# Altium footprint library infineon.PCBLIB: 19 footprints (part 1 of 2)
Each footprint in its own frame and in the unit in brackets; x right, y up, seen from the top. Pads: shape width x height; smd on the part's side, far side on the other; paste and mask are expansions set on the pad; w line width, h text height; cw(c..) or ccw(c..) is an arc to the next point about the centre after c.
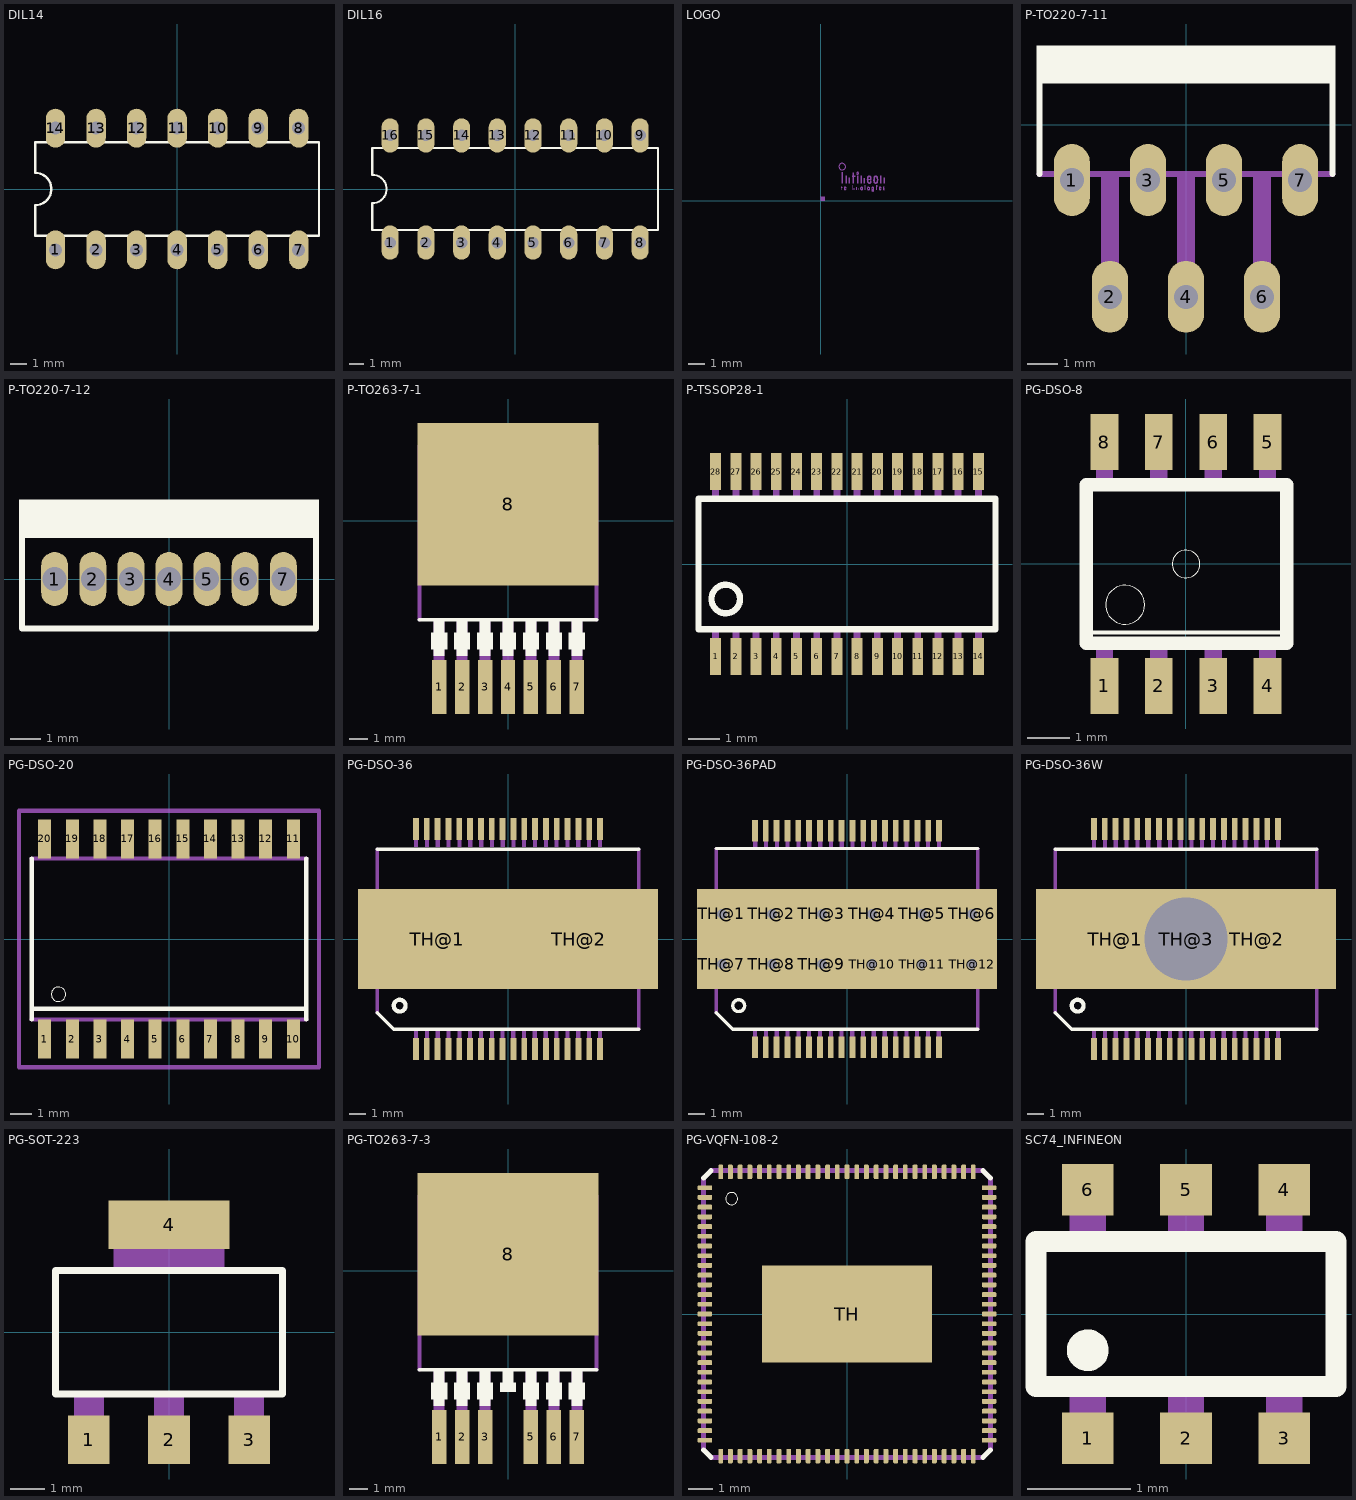
[diagram p0: the footprints below, top view; thin cyan lines are the x and y axes]

## DIL14 [mil]
pads (14):
  oval 48x96 hole 32: 1(-300,-150) 2(-200,-150) 3(-100,-150) 4(0,-150) 5(100,-150) 6(200,-150) 7(300,-150) 8(300,150) 9(200,150) 10(100,150) 11(0,150) 12(-100,150) 13(-200,150) 14(-300,150)
Top Overlay:
  lines w6: -350,-115 350,-115 350,115 -350,115 -350,40 cw(c-350,0) -350,-40 -350,-115

## DIL16 [mil]
pads (16):
  oval 48x96 hole 32: 1(-350,-150) 2(-250,-150) 3(-150,-150) 4(-50,-150) 5(50,-150) 6(150,-150) 7(250,-150) 8(350,-150) 9(350,150) 10(250,150) 11(150,150) 12(50,150) 13(-50,150) 14(-150,150) 15(-250,150) 16(-350,150)
Top Overlay:
  lines w6: -400,-115 400,-115 400,115 -400,115 -400,40 cw(c-400,0) -400,-40 -400,-115

## LOGO [mm]
Mechanical 16:
  circle w0: c1.28,2.034 r0.197
  circle w0: c2.19,1.64 r0.058
  circle w0.012: c2.434,0.736 r0.07
  circle w0.035: c2.839,0.736 r0.07
  circle w0.035: c2.428,0.736 r0.07
  circle w0: c3.32,0.881 r0.026
  rectangle: 1.234,1.02 1.332,1.727
  rectangle: 1.466,1.02 1.559,1.495
  rectangle: 1.657,1.02 1.75,1.379
  rectangle: 1.848,1.42 2.057,1.495
  rectangle: 1.895,1.02 1.987,1.686
  rectangle: 2.144,1.02 2.236,1.501
  rectangle: 2.549,1.02 2.642,1.373
  rectangle: 2.747,1.24 3.03,1.309
  rectangle: 3.529,1.02 3.621,1.495
  rectangle: 3.72,1.02 3.813,1.379
  rectangle: 2.358,1.02 2.451,1.495
  rectangle: 1.228,0.655 1.263,0.881
  rectangle: 1.217,0.788 1.292,0.817
  rectangle: 1.373,0.73 1.524,0.759
  rectangle: 1.86,0.655 1.895,0.944
  rectangle: 1.958,0.655 1.993,0.776
  rectangle: 2.109,0.655 2.144,0.817
  rectangle: 2.208,0.655 2.242,0.776
  rectangle: 2.619,0.655 2.654,0.944
  rectangle: 3.303,0.655 3.337,0.823
  rectangle: 3.453,0.73 3.604,0.759
  region: 0,0 0.254,0 0.254,0.254 0,0.254
  region: 0,0 0.254,0 0.254,0.254 0,0.254
  region: 0,0 0.254,0 0.254,0.254 0,0.254
  region: 0,0 0.254,0 0.254,0.254 0,0.254
  region: 0,0 0.254,0 0.254,0.254 0,0.254
  region: 0,0 0.254,0 0.254,0.254 0,0.254
  region: 0,0 0.254,0 0.254,0.254 0,0.254
  region: 0,0 0.254,0 0.254,0.254 0,0.254
  region: 0,0 0.254,0 0.254,0.254 0,0.254
  lines w0.035: 1.506,0.707 cw(c1.424,0.749) 1.483,0.678 cw(c1.45,0.735) 1.408,0.684 cw(c1.451,0.734) 1.385,0.73 cw(c4.888,0.744) 1.385,0.759 cw(c1.451,0.75) 1.425,0.811 cw(c1.446,0.759) 1.478,0.805 cw(c1.438,0.749) 1.506,0.759 1.506,0.753 ; 3.036,0.645 ccw(c3.101,0.645) 3.042,0.618 ccw(c3.092,0.64) 3.059,0.597 ccw(c3.1,0.649) 3.09,0.583 ccw(c3.099,0.638) 3.129,0.591 ccw(c3.098,0.646) 3.158,0.626 ccw(c3.051,0.662) 3.164,0.66 ccw(c-2.092,0.707) 3.164,0.753 ccw(c3.119,0.753) 3.146,0.788 ccw(c3.043,0.654) 3.129,0.8 ccw(c3.097,0.745) 3.065,0.8 ccw(c3.097,0.744) 3.042,0.776 ccw(c3.107,0.739) 3.042,0.701 ccw(c3.097,0.733) 3.065,0.678 ccw(c3.098,0.733) 3.117,0.672 ccw(c3.099,0.729) 3.152,0.701 ccw(c3.052,0.754) 3.164,0.736 ccw(c0.187,0.779) 3.164,0.823 ; 3.586,0.707 cw(c3.504,0.749) 3.563,0.678 cw(c3.53,0.735) 3.488,0.684 cw(c3.531,0.734) 3.465,0.73 cw(c6.968,0.744) 3.465,0.759 cw(c3.531,0.75) 3.505,0.811 cw(c3.526,0.759) 3.558,0.805 cw(c3.518,0.749) 3.586,0.759 3.586,0.753 ; 3.714,0.69 ccw(c3.788,0.763) 3.737,0.672 ccw(c3.754,0.702) 3.778,0.678 ccw(c3.753,0.702) 3.784,0.719 ccw(c3.733,0.691) 3.76,0.742 cw(c3.923,1.048) 3.731,0.759 cw(c3.746,0.781) 3.72,0.782 cw(c3.752,0.78) 3.731,0.805 cw(c3.749,0.785) 3.755,0.811 cw(c3.744,0.761) 3.778,0.8
  lines w0.093: 2.984,1.194 cw(c2.595,1.185) 2.981,1.138 cw(c2.871,1.147) 2.959,1.081 cw(c2.902,1.13) 2.909,1.055 cw(c2.892,1.135) 2.839,1.072 cw(c2.932,1.17) 2.816,1.101 cw(c2.988,1.203) 2.793,1.159 cw(c3.238,1.261) 2.787,1.332 cw(c3.223,1.263) 2.799,1.385 cw(c3.094,1.301) 2.816,1.431 cw(c2.88,1.401) 2.926,1.454 cw(c2.771,1.278) 2.949,1.431 cw(c2.886,1.377) 2.961,1.414 cw(c2.763,1.315) 2.984,1.315 2.984,1.292 ; 3.175,1.147 ccw(c3.278,1.159) 3.221,1.072 ccw(c3.272,1.149) 3.297,1.06 ccw(c3.273,1.145) 3.355,1.113 ccw(c3.102,1.213) 3.372,1.182 ccw(c2.653,1.263) 3.372,1.344 ccw(c3.186,1.323) 3.343,1.425 ccw(c3.277,1.382) 3.291,1.46 ccw(c3.268,1.334) 3.245,1.46 ccw(c3.258,1.387) 3.187,1.408 ccw(c3.645,1.275) 3.169,1.315 ccw(c3.831,1.257) 3.175,1.153

## P-TO220-7-11 [mil]
pads (7):
  oval 47.24x94.48 hole 31.5: 1(-150,-72.83) 2(-100,-226.38) 3(-50,-72.83) 4(0,-226.38) 5(50,-72.83) 6(100,-226.38) 7(150,-72.83)
Top Overlay:
  rectangle: -196.85,54.13 196.85,104.33
  lines w8: -192.91,-64.96 -192.91,55.12 ; 192.91,-64.96 192.91,55.12
Mechanical 16:
  rectangle: -61.81,-81.69 -38.19,-62.5
  rectangle: -161.81,-81.69 -138.19,-62.5
  rectangle: 38.19,-81.69 61.81,-62.5
  rectangle: -111.81,-235.24 -88.19,-62.5
  rectangle: -11.81,-235.23 11.81,-62.5
  rectangle: 88.19,-235.23 111.81,-62.5
  rectangle: 138.19,-81.69 161.81,-62.5
  lines w8: -192.91,-64.96 192.91,-64.96

## P-TO220-7-12 [mil]
pads (7):
  oval 35.43x70.86 hole 31.5: 1(-150,0) 2(-100,0) 3(-50,0) 4(0,0) 5(50,0) 6(100,0) 7(150,0)
Top Overlay:
  rectangle: -196.85,54.13 196.85,104.33
  lines w8: -192.91,55.12 -192.91,-64.96 192.91,-64.96 192.91,55.12

## P-TO263-7-1 [mil]
pads (8):
  rect 31.5x118.11 smd: 1(-150,-362.5) 2(-100,-362.5) 3(-50,-362.5) 4(0,-362.5) 5(50,-362.5) 6(100,-362.5) 7(150,-362.5)
  rect 393.7x354.33 smd: 8(0,35.24)
Top Overlay:
  rectangle: -17.72,-281.5 17.72,-244
  rectangle: 32.28,-281.49 67.72,-244
  rectangle: 82.28,-281.49 117.72,-244
  rectangle: 132.28,-281.49 167.72,-244
  rectangle: -67.72,-281.49 -32.28,-244
  rectangle: -117.72,-281.49 -82.28,-244
  rectangle: -167.72,-281.49 -132.28,-244
  rectangle: 138.19,-295.28 161.81,-218.5
  rectangle: -161.81,-295.28 -138.19,-218.5
  rectangle: -111.81,-295.28 -88.19,-218.5
  rectangle: -61.81,-295.28 -38.19,-218.5
  rectangle: -11.81,-295.28 11.81,-218.5
  rectangle: 38.19,-295.28 61.81,-218.5
  rectangle: 88.19,-295.28 111.81,-218.5
  lines w8: -192.91,-216.54 192.91,-216.54
Mechanical 16:
  rectangle: -161.81,-408.46 -138.19,-218.5
  rectangle: -111.81,-408.46 -88.19,-218.5
  rectangle: -61.81,-408.46 -38.19,-218.5
  rectangle: -11.81,-408.46 11.81,-218.5
  rectangle: 38.19,-408.46 61.81,-218.5
  rectangle: 88.19,-408.46 111.81,-218.5
  rectangle: 138.19,-408.46 161.81,-218.5
  lines w8: -192.91,-216.54 -192.91,137.8 ; 192.91,-216.54 192.91,137.8 ; -192.91,137.8 -192.91,162.4 -191.93,162.4 -132.87,177.17 132.87,177.17 191.93,162.4 192.91,162.4 192.91,137.8 ; -192.91,137.8 192.91,137.8

## P-TSSOP28-1 [mm]
pads (28):
  rect 0.35x1.2 smd: 1(-4.225,-2.975) 2(-3.575,-2.975) 3(-2.925,-2.975) 4(-2.275,-2.975) 5(-1.625,-2.975) 6(-0.975,-2.975) 7(-0.325,-2.975) 8(0.325,-2.975) 9(0.975,-2.975) 10(1.625,-2.975) 11(2.275,-2.975) 12(2.925,-2.975) 13(3.575,-2.975) 14(4.225,-2.975) 15(4.225,2.975) 16(3.575,2.975) 17(2.925,2.975) 18(2.275,2.975) 19(1.625,2.975) 20(0.975,2.975) 21(0.325,2.975) 22(-0.325,2.975) 23(-0.975,2.975) 24(-1.625,2.975) 25(-2.275,2.975) 26(-2.925,2.975) 27(-3.575,2.975) 28(-4.225,2.975)
Top Overlay:
  circle w0.203: c-3.9,-1.125 r0.459
  lines w0.203: -4.775,-2.1 4.775,-2.1 4.775,2.1 -4.775,2.1 -4.775,-2.1
Mechanical 16:
  rectangle: -4.335,-3.2 -4.115,-2.17
  rectangle: -3.685,-3.2 -3.465,-2.17
  rectangle: -3.035,-3.2 -2.815,-2.17
  rectangle: -2.385,-3.2 -2.165,-2.17
  rectangle: -1.735,-3.2 -1.515,-2.17
  rectangle: -1.085,-3.2 -0.865,-2.17
  rectangle: -0.435,-3.2 -0.215,-2.17
  rectangle: 0.215,-3.2 0.435,-2.17
  rectangle: 0.865,-3.2 1.085,-2.17
  rectangle: 1.515,-3.2 1.735,-2.17
  rectangle: 2.165,-3.2 2.385,-2.17
  rectangle: 2.815,-3.2 3.035,-2.17
  rectangle: 3.465,-3.2 3.685,-2.17
  rectangle: 4.115,-3.2 4.335,-2.17
  rectangle: 4.115,2.17 4.335,3.2
  rectangle: 3.465,2.17 3.685,3.2
  rectangle: 2.815,2.17 3.035,3.2
  rectangle: 2.165,2.17 2.385,3.2
  rectangle: 1.515,2.17 1.735,3.2
  rectangle: 0.865,2.17 1.085,3.2
  rectangle: 0.215,2.17 0.435,3.2
  rectangle: -0.435,2.17 -0.215,3.2
  rectangle: -1.085,2.17 -0.865,3.2
  rectangle: -1.735,2.17 -1.515,3.2
  rectangle: -2.385,2.17 -2.165,3.2
  rectangle: -3.035,2.17 -2.815,3.2
  rectangle: -3.685,2.17 -3.465,3.2
  rectangle: -4.335,2.17 -4.115,3.2

## PG-DSO-8 [mm]
pads (8):
  rect 0.65x1.31 smd: 1(-1.905,-2.845) 2(-0.635,-2.845) 3(0.635,-2.845) 4(1.905,-2.845) 5(1.905,2.845) 6(0.635,2.845) 7(-0.635,2.845) 8(-1.905,2.845)
Top Overlay:
  circle w0: c0,0 r0.322
  circle w0: c-1.42,-0.95 r0.455
  lines w0.1: -2.325,-1.6 2.35,-1.6
  lines w0.32: -2.325,-1.85 2.35,-1.85 2.35,-1.6 2.35,1.85 -2.325,1.85 -2.325,-1.6 -2.325,-1.85
Mechanical 16:
  rectangle: -2.105,-3 -1.705,-1.975
  rectangle: -0.835,-3 -0.435,-1.975
  rectangle: 0.435,-3 0.835,-1.975
  rectangle: 1.705,-3 2.105,-1.975
  region: 2.105,3 1.705,3 1.705,1.975 2.105,1.975
  region: 0.835,3 0.435,3 0.435,1.975 0.835,1.975
  region: -0.435,3 -0.835,3 -0.835,1.975 -0.435,1.975
  region: -1.705,3 -2.105,3 -2.105,1.975 -1.705,1.975
  rectangle: -2.105,-3 -1.705,-1.975
  rectangle: -0.835,-3 -0.435,-1.975
  rectangle: 0.435,-3 0.835,-1.975
  rectangle: 1.705,-3 2.105,-1.975

## PG-DSO-20 [mm]
pads (20):
  rect 0.6x1.8 smd: 1(-5.715,-4.6) 2(-4.445,-4.6) 3(-3.175,-4.6) 4(-1.905,-4.6) 5(-0.635,-4.6) 6(0.635,-4.6) 7(1.905,-4.6) 8(3.175,-4.6) 9(4.445,-4.6) 10(5.715,-4.6) 11(5.715,4.6) 12(4.445,4.6) 13(3.175,4.6) 14(1.905,4.6) 15(0.635,4.6) 16(-0.635,4.6) 17(-1.905,4.6) 18(-3.175,4.6) 19(-4.445,4.6) 20(-5.715,4.6)
Top Overlay:
  circle w0: c-5.08,-2.54 r0.33
  lines w0.203: -6.31,-3.7 -6.31,-3.2 ; -6.31,3.7 -6.31,-3.2 ; 6.31,-3.7 6.31,-3.2 ; 6.31,3.7 6.31,-3.2 ; -6.31,-3.2 6.31,-3.2
Mechanical 16:
  rectangle: -5.96,-5.15 -5.47,-3.8
  rectangle: -4.69,-5.15 -4.2,-3.8
  rectangle: -3.42,-5.15 -2.93,-3.8
  rectangle: -2.15,-5.15 -1.66,-3.8
  rectangle: -0.88,-5.15 -0.39,-3.8
  rectangle: 0.39,-5.15 0.88,-3.8
  rectangle: 1.66,-5.15 2.15,-3.8
  rectangle: 2.93,-5.15 3.42,-3.8
  rectangle: 4.2,-5.15 4.69,-3.8
  rectangle: 5.47,-5.15 5.96,-3.8
  rectangle: 5.47,3.8 5.96,5.15
  rectangle: 4.2,3.8 4.69,5.15
  rectangle: 2.93,3.8 3.42,5.15
  rectangle: 1.66,3.8 2.15,5.15
  rectangle: 0.39,3.8 0.88,5.15
  rectangle: -0.88,3.8 -0.39,5.15
  rectangle: -2.15,3.8 -1.66,5.15
  rectangle: -3.42,3.8 -2.93,5.15
  rectangle: -4.69,3.8 -4.2,5.15
  rectangle: -5.96,3.8 -5.47,5.15
  lines w0.203: -6.31,-3.7 6.31,-3.7 ; -6.31,3.7 6.31,3.7
Mechanical 27:
  lines w0.2: -6.895,-5.9 6.895,-5.9 6.895,5.9 -6.895,5.9 -6.895,-5.9

## PG-DSO-36 [mm]
pads (38):
  rect 0.35x1.3 smd: 1(-5.525,-6.6) 2(-4.875,-6.6) 3(-4.225,-6.6) 4(-3.575,-6.6) 5(-2.925,-6.6) 6(-2.275,-6.6) 7(-1.625,-6.6) 8(-0.975,-6.6) 9(-0.325,-6.6) 10(0.325,-6.6) 11(0.975,-6.6) 12(1.625,-6.6) 13(2.275,-6.6) 14(2.925,-6.6) 15(3.575,-6.6) 16(4.225,-6.6) 17(4.875,-6.6) 18(5.525,-6.6) 19(5.525,6.6) 20(4.875,6.6) 21(4.225,6.6) 22(3.575,6.6) 23(2.925,6.6) 24(2.275,6.6) 25(1.625,6.6) 26(0.975,6.6) 27(0.325,6.6) 28(-0.325,6.6) 29(-0.975,6.6) 30(-1.625,6.6) 31(-2.275,6.6) 32(-2.925,6.6) 33(-3.575,6.6) 34(-4.225,6.6) 35(-4.875,6.6) 36(-5.525,6.6)
  rect 9.5x6 smd: TH@1(-4.25,0) TH@2(4.25,0)
Top Overlay:
  circle w0.25: c-6.5,-4 r0.354
  lines w0.203: -7.85,-4.42 -6.85,-5.42 7.85,-5.42 ; -7.85,5.38 7.85,5.38
Top Paste:
  rectangle: -7.5,1.25 7.5,2.5
  rectangle: -7.5,-2.5 7.5,-1.25
  rectangle: -6.75,-1.5 7,1.5
Top Solder:
  rectangle: -9,1.25 9,3
  rectangle: -9,-3 9,-1.25
  rectangle: -8,-1.25 8,1.25
Mechanical 16:
  rectangle: -0.445,-7.1 -0.195,-5.52
  rectangle: 0.185,-7.1 0.435,-5.52
  region: 0.445,7.1 0.195,7.1 0.195,5.52 0.445,5.52
  region: -0.185,7.1 -0.435,7.1 -0.435,5.52 -0.185,5.52
  rectangle: -1.095,-7.1 -0.845,-5.52
  rectangle: -1.745,-7.1 -1.495,-5.52
  rectangle: -2.395,-7.1 -2.145,-5.52
  rectangle: -3.045,-7.1 -2.795,-5.52
  rectangle: -3.695,-7.1 -3.445,-5.52
  rectangle: -4.345,-7.1 -4.095,-5.52
  rectangle: -4.995,-7.1 -4.745,-5.52
  rectangle: -5.645,-7.1 -5.395,-5.52
  rectangle: 0.835,-7.1 1.085,-5.52
  rectangle: 1.485,-7.1 1.735,-5.52
  rectangle: 2.135,-7.1 2.385,-5.52
  rectangle: 2.785,-7.1 3.035,-5.52
  rectangle: 3.435,-7.1 3.685,-5.52
  rectangle: 4.085,-7.1 4.335,-5.52
  rectangle: 4.735,-7.1 4.985,-5.52
  rectangle: 5.385,-7.1 5.635,-5.52
  region: -0.835,7.1 -1.085,7.1 -1.085,5.52 -0.835,5.52
  region: -1.485,7.1 -1.735,7.1 -1.735,5.52 -1.485,5.52
  region: -2.135,7.1 -2.385,7.1 -2.385,5.52 -2.135,5.52
  region: -2.785,7.1 -3.035,7.1 -3.035,5.52 -2.785,5.52
  region: -3.435,7.1 -3.685,7.1 -3.685,5.52 -3.435,5.52
  region: -4.085,7.1 -4.335,7.1 -4.335,5.52 -4.085,5.52
  region: -4.735,7.1 -4.985,7.1 -4.985,5.52 -4.735,5.52
  region: -5.385,7.1 -5.635,7.1 -5.635,5.52 -5.385,5.52
  region: 1.095,7.1 0.845,7.1 0.845,5.52 1.095,5.52
  region: 1.745,7.1 1.495,7.1 1.495,5.52 1.745,5.52
  region: 2.395,7.1 2.145,7.1 2.145,5.52 2.395,5.52
  region: 3.045,7.1 2.795,7.1 2.795,5.52 3.045,5.52
  region: 3.695,7.1 3.445,7.1 3.445,5.52 3.695,5.52
  region: 4.345,7.1 4.095,7.1 4.095,5.52 4.345,5.52
  region: 4.995,7.1 4.745,7.1 4.745,5.52 4.995,5.52
  region: 5.645,7.1 5.395,7.1 5.395,5.52 5.645,5.52
  lines w0.203: -7.85,-4.42 -7.85,-1.5 -6.75,-1.5 -6.75,1.5 -7.85,1.5 -7.85,5.38 ; 7.85,-5.42 7.85,-1.5 6.75,-1.5 6.75,1.5 7.85,1.5 7.85,5.38

## PG-DSO-36PAD [mm]
pads (48):
  rect 0.35x1.3 smd: 1(-5.525,-6.5) 2(-4.875,-6.5) 3(-4.225,-6.5) 4(-3.575,-6.5) 5(-2.925,-6.5) 6(-2.275,-6.5) 7(-1.625,-6.5) 8(-0.975,-6.5) 9(-0.325,-6.5) 10(0.325,-6.5) 11(0.975,-6.5) 12(1.625,-6.5) 13(2.275,-6.5) 14(2.925,-6.5) 15(3.575,-6.5) 16(4.225,-6.5) 17(4.875,-6.5) 18(5.525,-6.5) 19(5.525,6.5) 20(4.875,6.5) 21(4.225,6.5) 22(3.575,6.5) 23(2.925,6.5) 24(2.275,6.5) 25(1.625,6.5) 26(0.975,6.5) 27(0.325,6.5) 28(-0.325,6.5) 29(-0.975,6.5) 30(-1.625,6.5) 31(-2.275,6.5) 32(-2.925,6.5) 33(-3.575,6.5) 34(-4.225,6.5) 35(-4.875,6.5) 36(-5.525,6.5)
  rect 3x3 hole 0.6: TH@1(-7.5,1.5) TH@2(-4.5,1.5) TH@3(-1.5,1.5) TH@4(1.5,1.5) TH@5(4.5,1.5) TH@6(7.5,1.5) TH@7(-7.5,-1.5) TH@8(-4.5,-1.5) TH@9(-1.5,-1.5) TH@10(1.5,-1.5) TH@11(4.5,-1.5) TH@12(7.5,-1.5)
Top Overlay:
  circle w0.203: c-6.5,-4 r0.354
  lines w0.203: -7.85,-4.42 -6.85,-5.42 7.85,-5.42 ; -7.85,5.43 7.85,5.43
Top Paste:
  rectangle: -7.5,1.25 7.5,2.5
  rectangle: -7.5,-2.5 7.5,-1.25
  rectangle: -6.75,-1.5 7,1.5
Top Solder:
  rectangle: -9,1.25 9,3
  rectangle: -9,-3 9,-1.25
  rectangle: -8,-1.25 8,1.25
Mechanical 16:
  rectangle: -0.445,-7.1 -0.195,-5.52
  rectangle: 0.185,-7.1 0.435,-5.52
  rectangle: -1.095,-7.1 -0.845,-5.52
  rectangle: -1.745,-7.1 -1.495,-5.52
  rectangle: -2.395,-7.1 -2.145,-5.52
  rectangle: -3.045,-7.1 -2.795,-5.52
  rectangle: -3.695,-7.1 -3.445,-5.52
  rectangle: -4.345,-7.1 -4.095,-5.52
  rectangle: -4.995,-7.1 -4.745,-5.52
  rectangle: -5.645,-7.1 -5.395,-5.52
  rectangle: 0.835,-7.1 1.085,-5.52
  rectangle: 1.485,-7.1 1.735,-5.52
  rectangle: 2.135,-7.1 2.385,-5.52
  rectangle: 2.785,-7.1 3.035,-5.52
  rectangle: 3.435,-7.1 3.685,-5.52
  rectangle: 4.085,-7.1 4.335,-5.52
  rectangle: 4.735,-7.1 4.985,-5.52
  rectangle: 5.385,-7.1 5.635,-5.52
  region: 0.445,7.1 0.195,7.1 0.195,5.52 0.445,5.52
  region: -0.185,7.1 -0.435,7.1 -0.435,5.52 -0.185,5.52
  region: 1.095,7.1 0.845,7.1 0.845,5.52 1.095,5.52
  region: 1.745,7.1 1.495,7.1 1.495,5.52 1.745,5.52
  region: 2.395,7.1 2.145,7.1 2.145,5.52 2.395,5.52
  region: 3.045,7.1 2.795,7.1 2.795,5.52 3.045,5.52
  region: 3.695,7.1 3.445,7.1 3.445,5.52 3.695,5.52
  region: 4.345,7.1 4.095,7.1 4.095,5.52 4.345,5.52
  region: 4.995,7.1 4.745,7.1 4.745,5.52 4.995,5.52
  region: 5.645,7.1 5.395,7.1 5.395,5.52 5.645,5.52
  region: -0.835,7.1 -1.085,7.1 -1.085,5.52 -0.835,5.52
  region: -1.485,7.1 -1.735,7.1 -1.735,5.52 -1.485,5.52
  region: -2.135,7.1 -2.385,7.1 -2.385,5.52 -2.135,5.52
  region: -2.785,7.1 -3.035,7.1 -3.035,5.52 -2.785,5.52
  region: -3.435,7.1 -3.685,7.1 -3.685,5.52 -3.435,5.52
  region: -4.085,7.1 -4.335,7.1 -4.335,5.52 -4.085,5.52
  region: -4.735,7.1 -4.985,7.1 -4.985,5.52 -4.735,5.52
  region: -5.385,7.1 -5.635,7.1 -5.635,5.52 -5.385,5.52
  lines w0.203: -7.85,-4.42 -7.85,-1.5 -6.75,-1.5 -6.75,1.5 -7.85,1.5 -7.85,5.43 ; 7.85,-5.42 7.85,-1.5 6.75,-1.5 6.75,1.5 7.85,1.5 7.85,5.43

## PG-DSO-36W [mm]
pads (39):
  rect 0.35x1.3 smd: 1(-5.525,-6.6) 2(-4.875,-6.6) 3(-4.225,-6.6) 4(-3.575,-6.6) 5(-2.925,-6.6) 6(-2.275,-6.6) 7(-1.625,-6.6) 8(-0.975,-6.6) 9(-0.325,-6.6) 10(0.325,-6.6) 11(0.975,-6.6) 12(1.625,-6.6) 13(2.275,-6.6) 14(2.925,-6.6) 15(3.575,-6.6) 16(4.225,-6.6) 17(4.875,-6.6) 18(5.525,-6.6) 19(5.525,6.6) 20(4.875,6.6) 21(4.225,6.6) 22(3.575,6.6) 23(2.925,6.6) 24(2.275,6.6) 25(1.625,6.6) 26(0.975,6.6) 27(0.325,6.6) 28(-0.325,6.6) 29(-0.975,6.6) 30(-1.625,6.6) 31(-2.275,6.6) 32(-2.925,6.6) 33(-3.575,6.6) 34(-4.225,6.6) 35(-4.875,6.6) 36(-5.525,6.6)
  rect 9.5x6 smd: TH@1(-4.25,0) TH@2(4.25,0)
  round 5.1 hole 5: TH@3(0,0)
Top Overlay:
  circle w0.25: c-6.5,-4 r0.354
  lines w0.203: -7.85,-4.42 -6.85,-5.42 7.85,-5.42 ; -7.85,5.38 7.85,5.38
Top Paste:
  rectangle: -7.5,1.25 7.5,2.5
  rectangle: -7.5,-2.5 7.5,-1.25
  rectangle: -6.75,-1.5 7,1.5
Top Solder:
  rectangle: -9,1.25 9,3
  rectangle: -9,-3 9,-1.25
  rectangle: -8,-1.25 8,1.25
Mechanical 16:
  rectangle: -0.445,-7.1 -0.195,-5.52
  rectangle: 0.185,-7.1 0.435,-5.52
  region: 0.445,7.05 0.195,7.05 0.195,5.47 0.445,5.47
  region: -0.185,7.05 -0.435,7.05 -0.435,5.47 -0.185,5.47
  rectangle: -1.095,-7.1 -0.845,-5.52
  rectangle: -1.745,-7.1 -1.495,-5.52
  rectangle: -2.395,-7.1 -2.145,-5.52
  rectangle: -3.045,-7.1 -2.795,-5.52
  rectangle: -3.695,-7.1 -3.445,-5.52
  rectangle: -4.345,-7.1 -4.095,-5.52
  rectangle: -4.995,-7.1 -4.745,-5.52
  rectangle: -5.645,-7.1 -5.395,-5.52
  rectangle: 0.835,-7.1 1.085,-5.52
  rectangle: 1.485,-7.1 1.735,-5.52
  rectangle: 2.135,-7.1 2.385,-5.52
  rectangle: 2.785,-7.1 3.035,-5.52
  rectangle: 3.435,-7.1 3.685,-5.52
  rectangle: 4.085,-7.1 4.335,-5.52
  rectangle: 4.735,-7.1 4.985,-5.52
  rectangle: 5.385,-7.1 5.635,-5.52
  region: -0.835,7.05 -1.085,7.05 -1.085,5.47 -0.835,5.47
  region: -1.485,7.05 -1.735,7.05 -1.735,5.47 -1.485,5.47
  region: -2.135,7.05 -2.385,7.05 -2.385,5.47 -2.135,5.47
  region: -2.785,7.05 -3.035,7.05 -3.035,5.47 -2.785,5.47
  region: -3.435,7.05 -3.685,7.05 -3.685,5.47 -3.435,5.47
  region: -4.085,7.05 -4.335,7.05 -4.335,5.47 -4.085,5.47
  region: -4.735,7.05 -4.985,7.05 -4.985,5.47 -4.735,5.47
  region: -5.385,7.05 -5.635,7.05 -5.635,5.47 -5.385,5.47
  region: 1.095,7.05 0.845,7.05 0.845,5.47 1.095,5.47
  region: 1.745,7.05 1.495,7.05 1.495,5.47 1.745,5.47
  region: 2.395,7.05 2.145,7.05 2.145,5.47 2.395,5.47
  region: 3.045,7.05 2.795,7.05 2.795,5.47 3.045,5.47
  region: 3.695,7.05 3.445,7.05 3.445,5.47 3.695,5.47
  region: 4.345,7.05 4.095,7.05 4.095,5.47 4.345,5.47
  region: 4.995,7.05 4.745,7.05 4.745,5.47 4.995,5.47
  region: 5.645,7.05 5.395,7.05 5.395,5.47 5.645,5.47
  lines w0.203: -7.85,-4.42 -7.85,-1.5 -6.75,-1.5 -6.75,1.5 -7.85,1.5 -7.85,5.38 ; 7.85,-5.42 7.85,-1.5 6.75,-1.5 6.75,1.5 7.85,1.5 7.85,5.38

## PG-SOT-223 [mm]
pads (4):
  rect 1.2x1.4 smd: 1(-2.311,-3.099) 2(0,-3.099) 3(2.311,-3.099)
  rect 3.5x1.4 smd: 4(0,3.099)
Top Overlay:
  lines w0.203: -3.277,-1.778 3.277,-1.778 3.277,1.778 -3.277,1.778 -3.277,-1.778
Mechanical 16:
  rectangle: -1.6,1.803 1.6,3.658
  rectangle: -0.432,-3.658 0.432,-1.803
  rectangle: -2.743,-3.658 -1.88,-1.803
  rectangle: 1.88,-3.658 2.743,-1.803
  rectangle: -1.6,1.803 1.6,3.658
  rectangle: -0.432,-3.658 0.432,-1.803
  rectangle: -2.743,-3.658 -1.88,-1.803
  rectangle: 1.88,-3.658 2.743,-1.803

## PG-TO263-7-3 [mil]
pads (7):
  rect 31.5x118.11 smd: 1(-150,-362.5) 2(-100,-362.5) 3(-50,-362.5) 5(50,-362.5) 6(100,-362.5) 7(150,-362.5)
  rect 393.7x354.33 smd: 8(0,35.24)
Top Overlay:
  rectangle: -17.72,-265 17.72,-244
  rectangle: 32.28,-281.49 67.72,-244
  rectangle: 82.28,-281.49 117.72,-244
  rectangle: 132.28,-281.49 167.72,-244
  rectangle: -67.72,-281.49 -32.28,-244
  rectangle: -117.72,-281.49 -82.28,-244
  rectangle: -167.72,-281.49 -132.28,-244
  rectangle: 138.19,-295.28 161.81,-218.5
  rectangle: -161.81,-295.28 -138.19,-218.5
  rectangle: -111.81,-295.28 -88.19,-218.5
  rectangle: -61.81,-295.28 -38.19,-218.5
  rectangle: -11.81,-260 11.81,-218.5
  rectangle: 38.19,-295.28 61.81,-218.5
  rectangle: 88.19,-295.28 111.81,-218.5
  lines w8: -192.91,-216.54 192.91,-216.54
Mechanical 16:
  rectangle: -161.81,-408.46 -138.19,-218.5
  rectangle: -111.81,-408.46 -88.19,-218.5
  rectangle: -61.81,-408.46 -38.19,-218.5
  rectangle: 38.19,-408.46 61.81,-218.5
  rectangle: 88.19,-408.46 111.81,-218.5
  rectangle: 138.19,-408.46 161.81,-218.5
  lines w8: -192.91,-216.54 -192.91,137.8 ; 192.91,-216.54 192.91,137.8 ; -192.91,137.8 -192.91,162.4 -191.93,162.4 -132.87,177.17 132.87,177.17 191.93,162.4 192.91,162.4 192.91,137.8 ; -192.91,137.8 192.91,137.8

## PG-VQFN-108-2 [mm]
pads (109):
  rrect50% 0.6x0.2 smd: 1(-5.85,5.2) 2(-5.85,4.8) 3(-5.85,4.4) 4(-5.85,4) 5(-5.85,3.6) 6(-5.85,3.2) 7(-5.85,2.8) 8(-5.85,2.4) 9(-5.85,2) 10(-5.85,1.6) 11(-5.85,1.2) 12(-5.85,0.8) 13(-5.85,0.4) 14(-5.85,0) 15(-5.85,-0.4) 16(-5.85,-0.8) 17(-5.85,-1.2) 18(-5.85,-1.6) 19(-5.85,-2) 20(-5.85,-2.4) 21(-5.85,-2.8) 22(-5.85,-3.2) 23(-5.85,-3.6) 24(-5.85,-4) 25(-5.85,-4.4) 26(-5.85,-4.8) 27(-5.85,-5.2) 55(5.85,-5.2) 56(5.85,-4.8) 57(5.85,-4.4) 58(5.85,-4) 59(5.85,-3.6) 60(5.85,-3.2) 61(5.85,-2.8) 62(5.85,-2.4) 63(5.85,-2) 64(5.85,-1.6) 65(5.85,-1.2) 66(5.85,-0.8) 67(5.85,-0.4) 68(5.85,0) 69(5.85,0.4) 70(5.85,0.8) 71(5.85,1.2) 72(5.85,1.6) 73(5.85,2) 74(5.85,2.4) 75(5.85,2.8) 76(5.85,3.2) 77(5.85,3.6) 78(5.85,4) 79(5.85,4.4) 80(5.85,4.8) 81(5.85,5.2)
  rrect50% 0.2x0.6 smd: 28(-5.2,-5.85) 29(-4.8,-5.85) 30(-4.4,-5.85) 31(-4,-5.85) 32(-3.6,-5.85) 33(-3.2,-5.85) 34(-2.8,-5.85) 35(-2.4,-5.85) 36(-2,-5.85) 37(-1.6,-5.85) 38(-1.2,-5.85) 39(-0.8,-5.85) 40(-0.4,-5.85) 41(0,-5.85) 42(0.4,-5.85) 43(0.8,-5.85) 44(1.2,-5.85) 45(1.6,-5.85) 46(2,-5.85) 47(2.4,-5.85) 48(2.8,-5.85) 49(3.2,-5.85) 50(3.6,-5.85) 51(4,-5.85) 52(4.4,-5.85) 53(4.8,-5.85) 54(5.2,-5.85) 82(5.2,5.85) 83(4.8,5.85) 84(4.4,5.85) 85(4,5.85) 86(3.6,5.85) 87(3.2,5.85) 88(2.8,5.85) 89(2.4,5.85) 90(2,5.85) 91(1.6,5.85) 92(1.2,5.85) 93(0.8,5.85) 94(0.4,5.85) 95(0,5.85) 96(-0.4,5.85) 97(-0.8,5.85) 98(-1.2,5.85) 99(-1.6,5.85) 100(-2,5.85) 101(-2.4,5.85) 102(-2.8,5.85) 103(-3.2,5.85) 104(-3.6,5.85) 105(-4,5.85) 106(-4.4,5.85) 107(-4.8,5.85) 108(-5.2,5.85)
  rect 7x4 smd: TH(0,0)
Top Overlay:
  circle w0: c-4.75,4.75 r0.25
  lines w0.203: -5.9,-5.6 -5.6,-5.9 ; -5.9,5.6 -5.6,5.9 ; 5.6,-5.9 5.9,-5.6 ; 5.6,5.9 5.9,5.6
Top Paste:
  rectangle: -6.125,5.125 -5.575,5.275
  rectangle: -6.125,4.725 -5.575,4.875
  rectangle: -6.125,4.325 -5.575,4.475
  rectangle: -6.125,3.925 -5.575,4.075
  rectangle: -6.125,3.525 -5.575,3.675
  rectangle: -6.125,3.125 -5.575,3.275
  rectangle: -6.125,2.725 -5.575,2.875
  rectangle: -6.125,2.325 -5.575,2.475
  rectangle: -6.125,1.925 -5.575,2.075
  rectangle: -6.125,1.525 -5.575,1.675
  rectangle: -6.125,1.125 -5.575,1.275
  rectangle: -6.125,0.725 -5.575,0.875
  rectangle: -6.125,0.325 -5.575,0.475
  rectangle: -6.125,-0.075 -5.575,0.075
  rectangle: -6.125,-0.475 -5.575,-0.325
  rectangle: -6.125,-0.875 -5.575,-0.725
  rectangle: -6.125,-1.275 -5.575,-1.125
  rectangle: -6.125,-1.675 -5.575,-1.525
  rectangle: -6.125,-2.075 -5.575,-1.925
  rectangle: -6.125,-2.475 -5.575,-2.325
  rectangle: -6.125,-2.875 -5.575,-2.725
  rectangle: -6.125,-3.275 -5.575,-3.125
  rectangle: -6.125,-3.675 -5.575,-3.525
  rectangle: -6.125,-4.075 -5.575,-3.925
  rectangle: -6.125,-4.475 -5.575,-4.325
  rectangle: -6.125,-4.875 -5.575,-4.725
  rectangle: -6.125,-5.275 -5.575,-5.125
  region: -5.125,-6.125 -5.125,-5.575 -5.275,-5.575 -5.275,-6.125
  region: -4.725,-6.125 -4.725,-5.575 -4.875,-5.575 -4.875,-6.125
  region: -4.325,-6.125 -4.325,-5.575 -4.475,-5.575 -4.475,-6.125
  region: -3.925,-6.125 -3.925,-5.575 -4.075,-5.575 -4.075,-6.125
  region: -3.525,-6.125 -3.525,-5.575 -3.675,-5.575 -3.675,-6.125
  region: -3.125,-6.125 -3.125,-5.575 -3.275,-5.575 -3.275,-6.125
  region: -2.725,-6.125 -2.725,-5.575 -2.875,-5.575 -2.875,-6.125
  region: -2.325,-6.125 -2.325,-5.575 -2.475,-5.575 -2.475,-6.125
  region: -1.925,-6.125 -1.925,-5.575 -2.075,-5.575 -2.075,-6.125
  region: -1.525,-6.125 -1.525,-5.575 -1.675,-5.575 -1.675,-6.125
  region: -1.125,-6.125 -1.125,-5.575 -1.275,-5.575 -1.275,-6.125
  region: -0.725,-6.125 -0.725,-5.575 -0.875,-5.575 -0.875,-6.125
  region: -0.325,-6.125 -0.325,-5.575 -0.475,-5.575 -0.475,-6.125
  region: 0.075,-6.125 0.075,-5.575 -0.075,-5.575 -0.075,-6.125
  region: 0.475,-6.125 0.475,-5.575 0.325,-5.575 0.325,-6.125
  region: 0.875,-6.125 0.875,-5.575 0.725,-5.575 0.725,-6.125
  region: 1.275,-6.125 1.275,-5.575 1.125,-5.575 1.125,-6.125
  region: 1.675,-6.125 1.675,-5.575 1.525,-5.575 1.525,-6.125
  region: 2.075,-6.125 2.075,-5.575 1.925,-5.575 1.925,-6.125
  region: 2.475,-6.125 2.475,-5.575 2.325,-5.575 2.325,-6.125
  region: 2.875,-6.125 2.875,-5.575 2.725,-5.575 2.725,-6.125
  region: 3.275,-6.125 3.275,-5.575 3.125,-5.575 3.125,-6.125
  region: 3.675,-6.125 3.675,-5.575 3.525,-5.575 3.525,-6.125
  region: 4.075,-6.125 4.075,-5.575 3.925,-5.575 3.925,-6.125
  region: 4.475,-6.125 4.475,-5.575 4.325,-5.575 4.325,-6.125
  region: 4.875,-6.125 4.875,-5.575 4.725,-5.575 4.725,-6.125
  region: 5.275,-6.125 5.275,-5.575 5.125,-5.575 5.125,-6.125
  region: 6.125,-5.125 5.575,-5.125 5.575,-5.275 6.125,-5.275
  region: 6.125,-4.725 5.575,-4.725 5.575,-4.875 6.125,-4.875
  region: 6.125,-4.325 5.575,-4.325 5.575,-4.475 6.125,-4.475
  region: 6.125,-3.925 5.575,-3.925 5.575,-4.075 6.125,-4.075
  region: 6.125,-3.525 5.575,-3.525 5.575,-3.675 6.125,-3.675
  region: 6.125,-3.125 5.575,-3.125 5.575,-3.275 6.125,-3.275
  region: 6.125,-2.725 5.575,-2.725 5.575,-2.875 6.125,-2.875
  region: 6.125,-2.325 5.575,-2.325 5.575,-2.475 6.125,-2.475
  region: 6.125,-1.925 5.575,-1.925 5.575,-2.075 6.125,-2.075
  region: 6.125,-1.525 5.575,-1.525 5.575,-1.675 6.125,-1.675
  region: 6.125,-1.125 5.575,-1.125 5.575,-1.275 6.125,-1.275
  region: 6.125,-0.725 5.575,-0.725 5.575,-0.875 6.125,-0.875
  region: 6.125,-0.325 5.575,-0.325 5.575,-0.475 6.125,-0.475
  region: 6.125,0.075 5.575,0.075 5.575,-0.075 6.125,-0.075
  region: 6.125,0.475 5.575,0.475 5.575,0.325 6.125,0.325
  region: 6.125,0.875 5.575,0.875 5.575,0.725 6.125,0.725
  region: 6.125,1.275 5.575,1.275 5.575,1.125 6.125,1.125
  region: 6.125,1.675 5.575,1.675 5.575,1.525 6.125,1.525
  region: 6.125,2.075 5.575,2.075 5.575,1.925 6.125,1.925
  region: 6.125,2.475 5.575,2.475 5.575,2.325 6.125,2.325
  region: 6.125,2.875 5.575,2.875 5.575,2.725 6.125,2.725
  region: 6.125,3.275 5.575,3.275 5.575,3.125 6.125,3.125
  region: 6.125,3.675 5.575,3.675 5.575,3.525 6.125,3.525
  region: 6.125,4.075 5.575,4.075 5.575,3.925 6.125,3.925
  region: 6.125,4.475 5.575,4.475 5.575,4.325 6.125,4.325
  region: 6.125,4.875 5.575,4.875 5.575,4.725 6.125,4.725
  region: 6.125,5.275 5.575,5.275 5.575,5.125 6.125,5.125
  region: 5.125,6.125 5.125,5.575 5.275,5.575 5.275,6.125
  region: 4.725,6.125 4.725,5.575 4.875,5.575 4.875,6.125
  region: 4.325,6.125 4.325,5.575 4.475,5.575 4.475,6.125
  region: 3.925,6.125 3.925,5.575 4.075,5.575 4.075,6.125
  region: 3.525,6.125 3.525,5.575 3.675,5.575 3.675,6.125
  region: 3.125,6.125 3.125,5.575 3.275,5.575 3.275,6.125
  region: 2.725,6.125 2.725,5.575 2.875,5.575 2.875,6.125
  region: 2.325,6.125 2.325,5.575 2.475,5.575 2.475,6.125
  region: 1.925,6.125 1.925,5.575 2.075,5.575 2.075,6.125
  region: 1.525,6.125 1.525,5.575 1.675,5.575 1.675,6.125
  region: 1.125,6.125 1.125,5.575 1.275,5.575 1.275,6.125
  region: 0.725,6.125 0.725,5.575 0.875,5.575 0.875,6.125
  region: 0.325,6.125 0.325,5.575 0.475,5.575 0.475,6.125
  region: -0.075,6.125 -0.075,5.575 0.075,5.575 0.075,6.125
  region: -0.475,6.125 -0.475,5.575 -0.325,5.575 -0.325,6.125
  region: -0.875,6.125 -0.875,5.575 -0.725,5.575 -0.725,6.125
  region: -1.275,6.125 -1.275,5.575 -1.125,5.575 -1.125,6.125
  region: -1.675,6.125 -1.675,5.575 -1.525,5.575 -1.525,6.125
  region: -2.075,6.125 -2.075,5.575 -1.925,5.575 -1.925,6.125
  region: -2.475,6.125 -2.475,5.575 -2.325,5.575 -2.325,6.125
  region: -2.875,6.125 -2.875,5.575 -2.725,5.575 -2.725,6.125
  region: -3.275,6.125 -3.275,5.575 -3.125,5.575 -3.125,6.125
  region: -3.675,6.125 -3.675,5.575 -3.525,5.575 -3.525,6.125
  region: -4.075,6.125 -4.075,5.575 -3.925,5.575 -3.925,6.125
  region: -4.475,6.125 -4.475,5.575 -4.325,5.575 -4.325,6.125
  region: -4.875,6.125 -4.875,5.575 -4.725,5.575 -4.725,6.125
  region: -5.275,6.125 -5.275,5.575 -5.125,5.575 -5.125,6.125
  rectangle: -3.2,-1.6 3.2,1.6
Top Solder:
  rectangle: -6.175,5.075 -5.525,5.325
  rectangle: -6.175,4.675 -5.525,4.925
  rectangle: -6.175,4.275 -5.525,4.525
  rectangle: -6.175,3.875 -5.525,4.125
  rectangle: -6.175,3.475 -5.525,3.725
  rectangle: -6.175,3.075 -5.525,3.325
  rectangle: -6.175,2.675 -5.525,2.925
  rectangle: -6.175,2.275 -5.525,2.525
  rectangle: -6.175,1.875 -5.525,2.125
  rectangle: -6.175,1.475 -5.525,1.725
  rectangle: -6.175,1.075 -5.525,1.325
  rectangle: -6.175,0.675 -5.525,0.925
  rectangle: -6.175,0.275 -5.525,0.525
  rectangle: -6.175,-0.125 -5.525,0.125
  rectangle: -6.175,-0.525 -5.525,-0.275
  rectangle: -6.175,-0.925 -5.525,-0.675
  rectangle: -6.175,-1.325 -5.525,-1.075
  rectangle: -6.175,-1.725 -5.525,-1.475
  rectangle: -6.175,-2.125 -5.525,-1.875
  rectangle: -6.175,-2.525 -5.525,-2.275
  rectangle: -6.175,-2.925 -5.525,-2.675
  rectangle: -6.175,-3.325 -5.525,-3.075
  rectangle: -6.175,-3.725 -5.525,-3.475
  rectangle: -6.175,-4.125 -5.525,-3.875
  rectangle: -6.175,-4.525 -5.525,-4.275
  rectangle: -6.175,-4.925 -5.525,-4.675
  rectangle: -6.175,-5.325 -5.525,-5.075
  region: -5.075,-6.175 -5.075,-5.525 -5.325,-5.525 -5.325,-6.175
  region: -4.675,-6.175 -4.675,-5.525 -4.925,-5.525 -4.925,-6.175
  region: -4.275,-6.175 -4.275,-5.525 -4.525,-5.525 -4.525,-6.175
  region: -3.875,-6.175 -3.875,-5.525 -4.125,-5.525 -4.125,-6.175
  region: -3.475,-6.175 -3.475,-5.525 -3.725,-5.525 -3.725,-6.175
  region: -3.075,-6.175 -3.075,-5.525 -3.325,-5.525 -3.325,-6.175
  region: -2.675,-6.175 -2.675,-5.525 -2.925,-5.525 -2.925,-6.175
  region: -2.275,-6.175 -2.275,-5.525 -2.525,-5.525 -2.525,-6.175
  region: -1.875,-6.175 -1.875,-5.525 -2.125,-5.525 -2.125,-6.175
  region: -1.475,-6.175 -1.475,-5.525 -1.725,-5.525 -1.725,-6.175
  region: -1.075,-6.175 -1.075,-5.525 -1.325,-5.525 -1.325,-6.175
  region: -0.675,-6.175 -0.675,-5.525 -0.925,-5.525 -0.925,-6.175
  region: -0.275,-6.175 -0.275,-5.525 -0.525,-5.525 -0.525,-6.175
  region: 0.125,-6.175 0.125,-5.525 -0.125,-5.525 -0.125,-6.175
  region: 0.525,-6.175 0.525,-5.525 0.275,-5.525 0.275,-6.175
  region: 0.925,-6.175 0.925,-5.525 0.675,-5.525 0.675,-6.175
  region: 1.325,-6.175 1.325,-5.525 1.075,-5.525 1.075,-6.175
  region: 1.725,-6.175 1.725,-5.525 1.475,-5.525 1.475,-6.175
  region: 2.125,-6.175 2.125,-5.525 1.875,-5.525 1.875,-6.175
  region: 2.525,-6.175 2.525,-5.525 2.275,-5.525 2.275,-6.175
  region: 2.925,-6.175 2.925,-5.525 2.675,-5.525 2.675,-6.175
  region: 3.325,-6.175 3.325,-5.525 3.075,-5.525 3.075,-6.175
  region: 3.725,-6.175 3.725,-5.525 3.475,-5.525 3.475,-6.175
  region: 4.125,-6.175 4.125,-5.525 3.875,-5.525 3.875,-6.175
  region: 4.525,-6.175 4.525,-5.525 4.275,-5.525 4.275,-6.175
  region: 4.925,-6.175 4.925,-5.525 4.675,-5.525 4.675,-6.175
  region: 5.325,-6.175 5.325,-5.525 5.075,-5.525 5.075,-6.175
  region: 6.175,-5.075 5.525,-5.075 5.525,-5.325 6.175,-5.325
  region: 6.175,-4.675 5.525,-4.675 5.525,-4.925 6.175,-4.925
  region: 6.175,-4.275 5.525,-4.275 5.525,-4.525 6.175,-4.525
  region: 6.175,-3.875 5.525,-3.875 5.525,-4.125 6.175,-4.125
  region: 6.175,-3.475 5.525,-3.475 5.525,-3.725 6.175,-3.725
  region: 6.175,-3.075 5.525,-3.075 5.525,-3.325 6.175,-3.325
  region: 6.175,-2.675 5.525,-2.675 5.525,-2.925 6.175,-2.925
  region: 6.175,-2.275 5.525,-2.275 5.525,-2.525 6.175,-2.525
  region: 6.175,-1.875 5.525,-1.875 5.525,-2.125 6.175,-2.125
  region: 6.175,-1.475 5.525,-1.475 5.525,-1.725 6.175,-1.725
  region: 6.175,-1.075 5.525,-1.075 5.525,-1.325 6.175,-1.325
  region: 6.175,-0.675 5.525,-0.675 5.525,-0.925 6.175,-0.925
  region: 6.175,-0.275 5.525,-0.275 5.525,-0.525 6.175,-0.525
  region: 6.175,0.125 5.525,0.125 5.525,-0.125 6.175,-0.125
  region: 6.175,0.525 5.525,0.525 5.525,0.275 6.175,0.275
  region: 6.175,0.925 5.525,0.925 5.525,0.675 6.175,0.675
  region: 6.175,1.325 5.525,1.325 5.525,1.075 6.175,1.075
  region: 6.175,1.725 5.525,1.725 5.525,1.475 6.175,1.475
  region: 6.175,2.125 5.525,2.125 5.525,1.875 6.175,1.875
  region: 6.175,2.525 5.525,2.525 5.525,2.275 6.175,2.275
  region: 6.175,2.925 5.525,2.925 5.525,2.675 6.175,2.675
  region: 6.175,3.325 5.525,3.325 5.525,3.075 6.175,3.075
  region: 6.175,3.725 5.525,3.725 5.525,3.475 6.175,3.475
  region: 6.175,4.125 5.525,4.125 5.525,3.875 6.175,3.875
  region: 6.175,4.525 5.525,4.525 5.525,4.275 6.175,4.275
  region: 6.175,4.925 5.525,4.925 5.525,4.675 6.175,4.675
  region: 6.175,5.325 5.525,5.325 5.525,5.075 6.175,5.075
  region: 5.075,6.175 5.075,5.525 5.325,5.525 5.325,6.175
  region: 4.675,6.175 4.675,5.525 4.925,5.525 4.925,6.175
  region: 4.275,6.175 4.275,5.525 4.525,5.525 4.525,6.175
  region: 3.875,6.175 3.875,5.525 4.125,5.525 4.125,6.175
  region: 3.475,6.175 3.475,5.525 3.725,5.525 3.725,6.175
  region: 3.075,6.175 3.075,5.525 3.325,5.525 3.325,6.175
  region: 2.675,6.175 2.675,5.525 2.925,5.525 2.925,6.175
  region: 2.275,6.175 2.275,5.525 2.525,5.525 2.525,6.175
  region: 1.875,6.175 1.875,5.525 2.125,5.525 2.125,6.175
  region: 1.475,6.175 1.475,5.525 1.725,5.525 1.725,6.175
  region: 1.075,6.175 1.075,5.525 1.325,5.525 1.325,6.175
  region: 0.675,6.175 0.675,5.525 0.925,5.525 0.925,6.175
  region: 0.275,6.175 0.275,5.525 0.525,5.525 0.525,6.175
  region: -0.125,6.175 -0.125,5.525 0.125,5.525 0.125,6.175
  region: -0.525,6.175 -0.525,5.525 -0.275,5.525 -0.275,6.175
  region: -0.925,6.175 -0.925,5.525 -0.675,5.525 -0.675,6.175
  region: -1.325,6.175 -1.325,5.525 -1.075,5.525 -1.075,6.175
  region: -1.725,6.175 -1.725,5.525 -1.475,5.525 -1.475,6.175
  region: -2.125,6.175 -2.125,5.525 -1.875,5.525 -1.875,6.175
  region: -2.525,6.175 -2.525,5.525 -2.275,5.525 -2.275,6.175
  region: -2.925,6.175 -2.925,5.525 -2.675,5.525 -2.675,6.175
  region: -3.325,6.175 -3.325,5.525 -3.075,5.525 -3.075,6.175
  region: -3.725,6.175 -3.725,5.525 -3.475,5.525 -3.475,6.175
  region: -4.125,6.175 -4.125,5.525 -3.875,5.525 -3.875,6.175
  region: -4.525,6.175 -4.525,5.525 -4.275,5.525 -4.275,6.175
  region: -4.925,6.175 -4.925,5.525 -4.675,5.525 -4.675,6.175
  region: -5.325,6.175 -5.325,5.525 -5.075,5.525 -5.075,6.175
  region: 0,0 0.254,0 0.254,0.254 0,0.254
Mechanical 16:
  lines w0.203: -5.9,-5.6 -5.9,5.6 ; -5.6,-5.9 5.6,-5.9 ; -5.6,5.9 5.6,5.9 ; 5.9,-5.6 5.9,5.6

## SC74_INFINEON [mm]
pads (6):
  rect 0.5x0.5 smd: 1(-0.95,-1.2) 2(0,-1.2) 3(0.95,-1.2) 4(0.95,1.2) 5(0,1.2) 6(-0.95,1.2)
Top Overlay:
  circle w0.203: c-0.95,-0.35 r0.1
  lines w0.203: -1.45,-0.7 -1.45,0.7 1.45,0.7 1.45,-0.7 -1.45,-0.7
Mechanical 16:
  rectangle: -1.125,-1.3 -0.775,-0.775
  rectangle: -0.175,-1.3 0.175,-0.775
  rectangle: 0.775,-1.3 1.125,-0.775
  rectangle: 0.775,0.775 1.125,1.3
  rectangle: -0.175,0.775 0.175,1.3
  rectangle: -1.125,0.775 -0.775,1.3